# Altium schematic symbol library CRCW120610K0JNEA.SchLib: 1 symbol
Pins are listed as number, name and electrical type; pins without a type are passive.

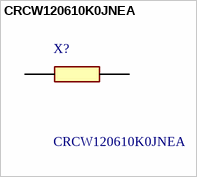
[diagram p0: symbol CRCW120610K0JNEA]

## CRCW120610K0JNEA
designator X?
VISHAY - CRCW120610K0JNEA - RES, THICK FILM, 10K, 5%, 0.25W, 1206; Geometry.Height: 0.6mm; Mouser Part Number: 71-CRCW1206J-10K-E3; Mouser Price/Stock: https://www.mouser.co.uk/ProductDetail/Vishay-Dale/CRCW120610K0JNEA?qs=ODaLBy2SlZEOPn1wGLt8vA%3D%3D; Manufacturer_Name: Vishay; Manufacturer_Part_Number: CRCW120610K0JNEA; Datasheet Link: https://datasheet.datasheetarchive.com/originals/distributors/SFDatasheet-3/sf-00065383.pdf
footprint RESC3216X60N
pins: 1, 2